# Altium schematic symbol library Mech,Heatsink,TO-220,6.8W.Schlib: 1 symbol
Pins are listed as number, name and electrical type; pins without a type are passive.

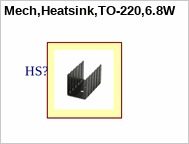
[diagram p0: symbol Mech,Heatsink,TO-220,6.8W]

## Mech,Heatsink,TO-220,6.8W
designator HS?, comment Heatsink  (value not drawn)
Heat Sink TO-220 Aluminum 6.8W @ 75°C Board Level